# Altium schematic symbol library BGT24MTR11.SchLib: 1 symbol
Pins are listed as number, name and electrical type; pins without a type are passive.

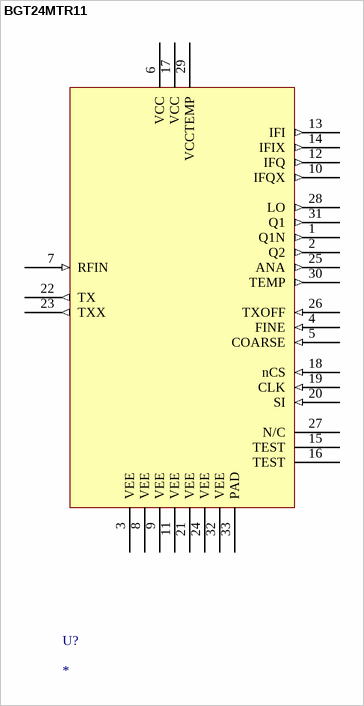
[diagram p0: symbol BGT24MTR11]

## BGT24MTR11
designator U?
pins: 1 Q1N (out), 2 Q2 (out), 3 VEE (power), 4 FINE (in), 5 COARSE (in), 6 VCC (power), 7 RFIN (in), 8 VEE (power), 9 VEE (power), 10 IFQX (out), 11 VEE (power), 12 IFQ (out), 13 IFI (out), 14 IFIX (out), 15 TEST, 16 TEST, 17 VCC (power), 18 nCS (in), 19 CLK (in), 20 SI (in), 21 VEE (power), 22 TX (out), 23 TXX (out), 24 VEE (power), 25 ANA (out), 26 TXOFF (in), 27 N/C, 28 LO (out), 29 VCCTEMP (power), 30 TEMP (out), 31 Q1 (out), 32 VEE (power), 33 PAD (power)